# EAGLE library part EX16 (library DodoLcd)
connettore explorer 16
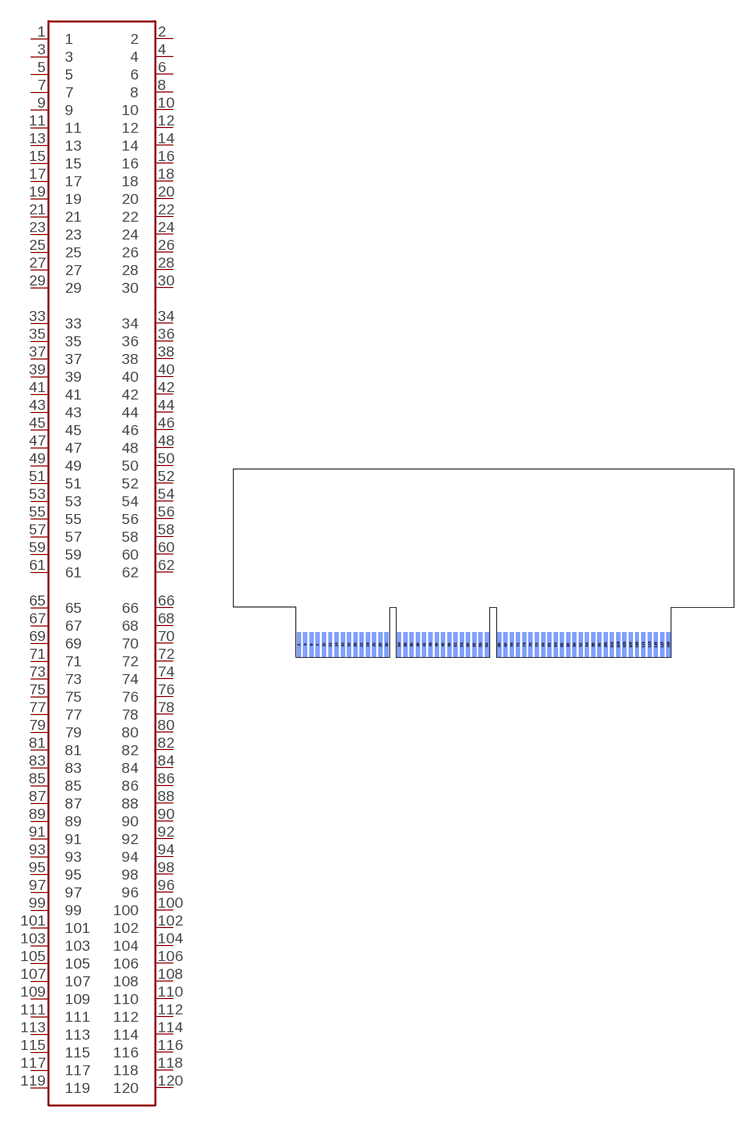
[diagram p0: symbol with the pads of EX16CONN; footprint EX16CONN]

Designator prefix -

## EX16  [EX16CONN]
1  1
2  2
3  3
4  4
5  5
6  6
7  7
8  8
9  9
10  10
11  11
12  12
13  13
14  14
15  15
16  16
17  17
18  18
19  19
20  20
21  21
22  22
23  23
24  24
25  25
26  26
27  27
28  28
29  29
30  30
33  33
34  34
35  35
36  36
37  37
38  38
39  39
40  40
41  41
42  42
43  43
44  44
45  45
46  46
47  47
48  48
49  49
50  50
51  51
52  52
53  53
54  54
55  55
56  56
57  57
58  58
59  59
60  60
61  61
62  62
65  65
66  66
67  67
68  68
69  69
70  70
71  71
72  72
73  73
74  74
75  75
76  76
77  77
78  78
79  79
80  80
81  81
82  82
83  83
84  84
85  85
86  86
87  87
88  88
89  89
90  90
91  91
92  92
93  93
94  94
95  95
96  96
97  97
98  98
99  99
100  100
101  101
102  102
103  103
104  104
105  105
106  106
107  107
108  108
109  109
110  110
111  111
112  112
113  113
114  114
115  115
116  116
117  117
118  118
119  119
120  120

## Footprint EX16CONN (pad centres in mm)
ESPANSIONE DELLA EXPLORER 16
smd 0.635 x 4: 1 10.5,2; 3 11.5,2; 5 12.5,2; 7 13.5,2; 9 14.5,2; 11 15.5,2; 13 16.5,2; 15 17.5,2; 17 18.5,2; 19 19.5,2; 21 20.5,2; 23 21.5,2; 25 22.5,2; 27 23.5,2; 29 24.5,2; 33 26.5,2; 35 27.5,2; 37 28.5,2; 39 29.5,2; 41 30.5,2; 43 31.5,2; 45 32.5,2; 47 33.5,2; 49 34.5,2; 51 35.5,2; 53 36.5,2; 55 37.5,2; 57 38.5,2; 59 39.5,2; 61 40.5,2; 65 42.5,2; 67 43.5,2; 69 44.5,2; 71 45.5,2; 73 46.5,2; 75 47.5,2; 77 48.5,2; 79 49.5,2; 81 50.5,2; 83 51.5,2; 85 52.5,2; 87 53.5,2; 89 54.5,2; 91 55.5,2; 93 56.5,2; 95 57.5,2; 97 58.5,2; 99 59.5,2; 101 60.5,2; 103 61.5,2; 105 62.5,2; 107 63.5,2; 109 64.5,2; 111 65.5,2; 113 66.5,2; 115 67.5,2; 117 68.5,2; 119 69.5,2
smd 0.635 x 4 bottom: 2 10.5,2; 4 11.5,2; 6 12.5,2; 8 13.5,2; 10 14.5,2; 12 15.5,2; 14 16.5,2; 16 17.5,2; 18 18.5,2; 20 19.5,2; 22 20.5,2; 24 21.5,2; 26 22.5,2; 28 23.5,2; 30 24.5,2; 34 26.5,2; 36 27.5,2; 38 28.5,2; 40 29.5,2; 42 30.5,2; 44 31.5,2; 46 32.5,2; 48 33.5,2; 50 34.5,2; 52 35.5,2; 54 36.5,2; 56 37.5,2; 58 38.5,2; 60 39.5,2; 62 40.5,2; 66 42.5,2; 68 43.5,2; 70 44.5,2; 72 45.5,2; 74 46.5,2; 76 47.5,2; 78 48.5,2; 80 49.5,2; 82 50.5,2; 84 51.5,2; 86 52.5,2; 88 53.5,2; 90 54.5,2; 92 55.5,2; 94 56.5,2; 96 57.5,2; 98 58.5,2; 100 59.5,2; 102 60.5,2; 104 61.5,2; 106 62.5,2; 108 63.5,2; 110 64.5,2; 112 65.5,2; 114 66.5,2; 116 67.5,2; 118 68.5,2; 120 69.5,2